# EAGLE library part 675024321321 (library Wuerth_Elektronik_eiCan_Communication_Connectors_v2.2)
WR-COM Horizontal DVI With UNC 4-40 Screw, 24+5 pins
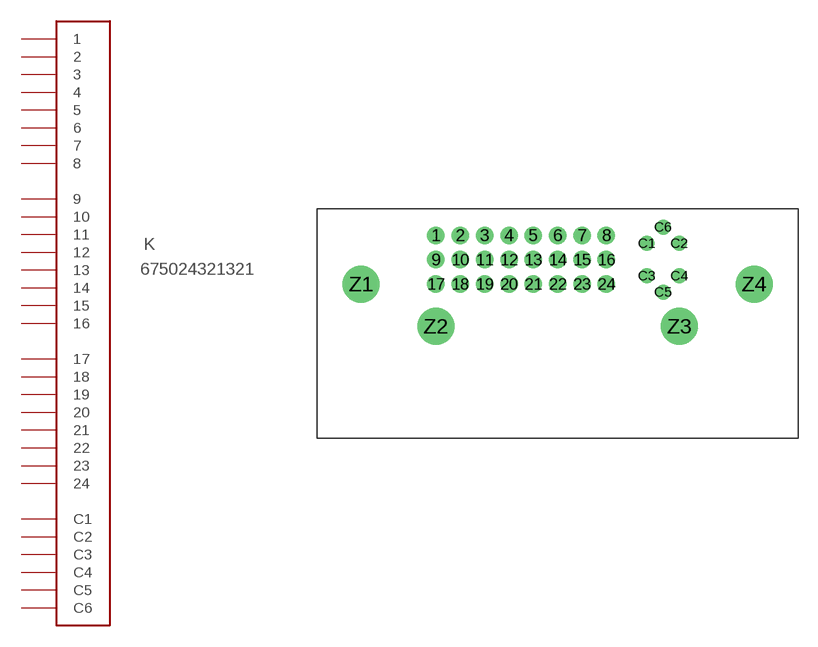
[diagram p14: symbol with the pads of 675024321321; footprint 675024321321]

Designator prefix K

## 675024321321  [675024321321]
1  1  pas
2  2  pas
3  3  pas
4  4  pas
5  5  pas
6  6  pas
7  7  pas
8  8  pas
9  9  pas
10  10  pas
11  11  pas
12  12  pas
13  13  pas
14  14  pas
15  15  pas
16  16  pas
17  17  pas
18  18  pas
19  19  pas
20  20  pas
21  21  pas
22  22  pas
23  23  pas
24  24  pas
C1  C1  pas
C2  C2  pas
C3  C3  pas
C4  C4  pas
C5  C5  pas
C6  C6  pas

## Footprint 675024321321 (pad centres in mm)
WR-COM Horizontal DVI With UNC 4-40 Screw, 24+5 pins
drill 0.86: 1 -6.668,1.905; 2 -4.763,1.905; 3 -2.857,1.905; 4 -0.953,1.905; 5 0.953,1.905; 6 2.857,1.905; 7 4.763,1.905; 8 6.668,1.905; 9 -6.668,0; 10 -4.763,0; 11 -2.857,0; 12 -0.953,0; 13 0.953,0; 14 2.857,0; 15 4.763,0; 16 6.668,0; 17 -6.668,-1.905; 18 -4.763,-1.905; 19 -2.857,-1.905; 20 -0.953,-1.905; 21 0.953,-1.905; 22 2.857,-1.905; 23 4.763,-1.905; 24 6.668,-1.905
drill 0.66: C1 9.842,1.27; C2 12.383,1.27; C3 9.842,-1.27; C4 12.383,-1.27; C5 11.113,-2.54; C6 11.113,2.54
drill 1.93: Z1 -12.508,-1.905; Z2 -6.668,-5.205; Z3 12.383,-5.205; Z4 18.223,-1.905